# EAGLE library part BQ24259 (library My_TI)
BQ24259 2A Single Cell USB Charger With Narrow VDC Power Path Management and Adjustable Voltage USB OTG • 90% High Efficiency Switch Mode 2-A Charger • 3.9-V to 6.2-V Single Input USB-Compliant Charger with 6.4-V Over-Voltage Protection • USB OTG with Adjustable output 4.55 V to 5.5 V at 1 A or 1.5 A • I2C port for optimal system performance and status reporting Datasheet <http://www.ti.com/lit/ds/symlink/bq24259.pdf>
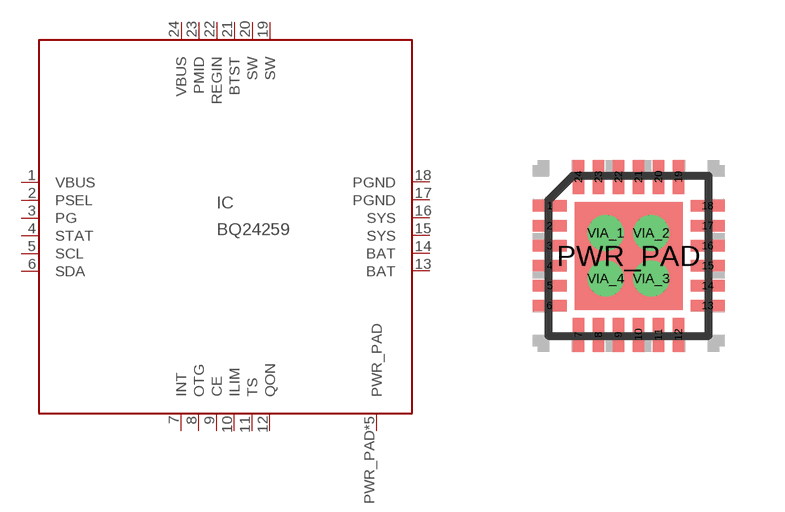
[diagram p42: symbol with the pads of PQFP-24; footprint PQFP-24]

Designator prefix IC

## BQ24259  [PQFP-24]
1  VBUS  pwr
2  PSEL  in
3  PG  out
4  STAT  out
5  SCL  in
6  SDA
7  INT  out
8  OTG  in
9  CE  in
10  ILIM  in
11  TS  in
12  QON  in
13  BAT  pwr
14  BAT  pwr
15  SYS  in
16  SYS  in
17  PGND  pwr
18  PGND  pwr
19  SW  out
20  SW  out
21  BTST  pwr
22  REGIN  pwr
23  PMID  out
24  VBUS  pwr
PWR_PAD  PWR_PAD  in
VIA_1  PWR_PAD  in
VIA_2  PWR_PAD  in
VIA_3  PWR_PAD  in
VIA_4  PWR_PAD  in

## Footprint PQFP-24 (pad centres in mm)
PQFP-24 Auto generated by make-symbol-device-package-bsdl.ulp Rev. 44
smd 0.85 x 0.28: 1 -1.975,1.25; 2 -1.975,0.75; 3 -1.975,0.25; 4 -1.975,-0.25; 5 -1.975,-0.75; 6 -1.975,-1.25; 13 1.975,-1.25; 14 1.975,-0.75; 15 1.975,-0.25; 16 1.975,0.25; 17 1.975,0.75; 18 1.975,1.25
smd 0.28 x 0.85: 7 -1.25,-1.975; 8 -0.75,-1.975; 9 -0.25,-1.975; 10 0.25,-1.975; 11 0.75,-1.975; 12 1.25,-1.975; 19 1.25,1.975; 20 0.75,1.975; 21 0.25,1.975; 22 -0.25,1.975; 23 -0.75,1.975; 24 -1.25,1.975
smd 2.7 x 2.7: PWR_PAD 0,0
drill 0.4: VIA_1 -0.57,0.57; VIA_2 0.57,0.57; VIA_3 0.57,-0.57; VIA_4 -0.57,-0.57